# EAGLE library part MAEVARM (library maevarm)
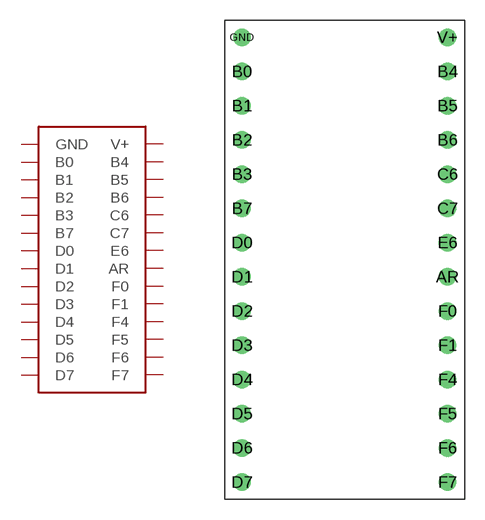
[diagram p0: symbol with the pads of MAEVARM; footprint MAEVARM]

Designator prefix -

## MAEVARM  [MAEVARM]
AR  AR
B0  B0
B1  B1
B2  B2
B3  B3
B4  B4
B5  B5
B6  B6
B7  B7
C6  C6
C7  C7
D0  D0
D1  D1
D2  D2
D3  D3
D4  D4
D5  D5
D6  D6
D7  D7
E6  E6
F0  F0
F1  F1
F4  F4
F5  F5
F6  F6
F7  F7
GND  GND
V+  V+

## Footprint MAEVARM (pad centres in mm)
drill 0.8 round: AR 15.24,-17.78; B0 0,-2.54; B1 0,-5.08; B2 0,-7.62; B3 0,-10.16; B4 15.24,-2.54; B5 15.24,-5.08; B6 15.24,-7.62; B7 0,-12.7; C6 15.24,-10.16; C7 15.24,-12.7; D0 0,-15.24; D1 0,-17.78; D2 0,-20.32; D3 0,-22.86; D4 0,-25.4; D5 0,-27.94; D6 0,-30.48; D7 0,-33.02; E6 15.24,-15.24; F0 15.24,-20.32; F1 15.24,-22.86; F4 15.24,-25.4; F5 15.24,-27.94; F6 15.24,-30.48; F7 15.24,-33.02; GND 0,0; V+ 15.24,0